# Altium schematic symbol library AD5061BRJZ-1500RL7.SchLib: 1 symbol
Pins are listed as number, name and electrical type; pins without a type are passive.

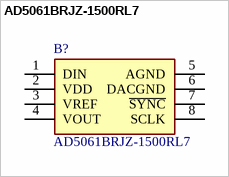
[diagram p0: symbol AD5061BRJZ-1500RL7]

## AD5061BRJZ-1500RL7
designator B?
DAC 1-CH Segment 16-bit 8-Pin SOT-23 T/R; Manufacturer_Name: Analog Devices; Geometry.Height: 1.45mm; Mouser Part Number: 584-AD5061BRJZ1500R7; Mouser Price/Stock: https://www.mouser.co.uk/ProductDetail/Analog-Devices/AD5061BRJZ-1500RL7?qs=NmRFExCfTkErstKr48Qwig%3D%3D; Manufacturer_Part_Number: AD5061BRJZ-1500RL7; Datasheet Link: *
footprint SOT65P280X145-8N
pins: 1 DIN, 2 VDD, 3 VREF, 4 VOUT, 5 AGND, 6 DACGND, 7 ~{SYNC}, 8 SCLK